# Altium schematic symbol library PrISUm-ICs.SchLib: 27 symbols
Pins are listed as number, name and electrical type; pins without a type are passive.

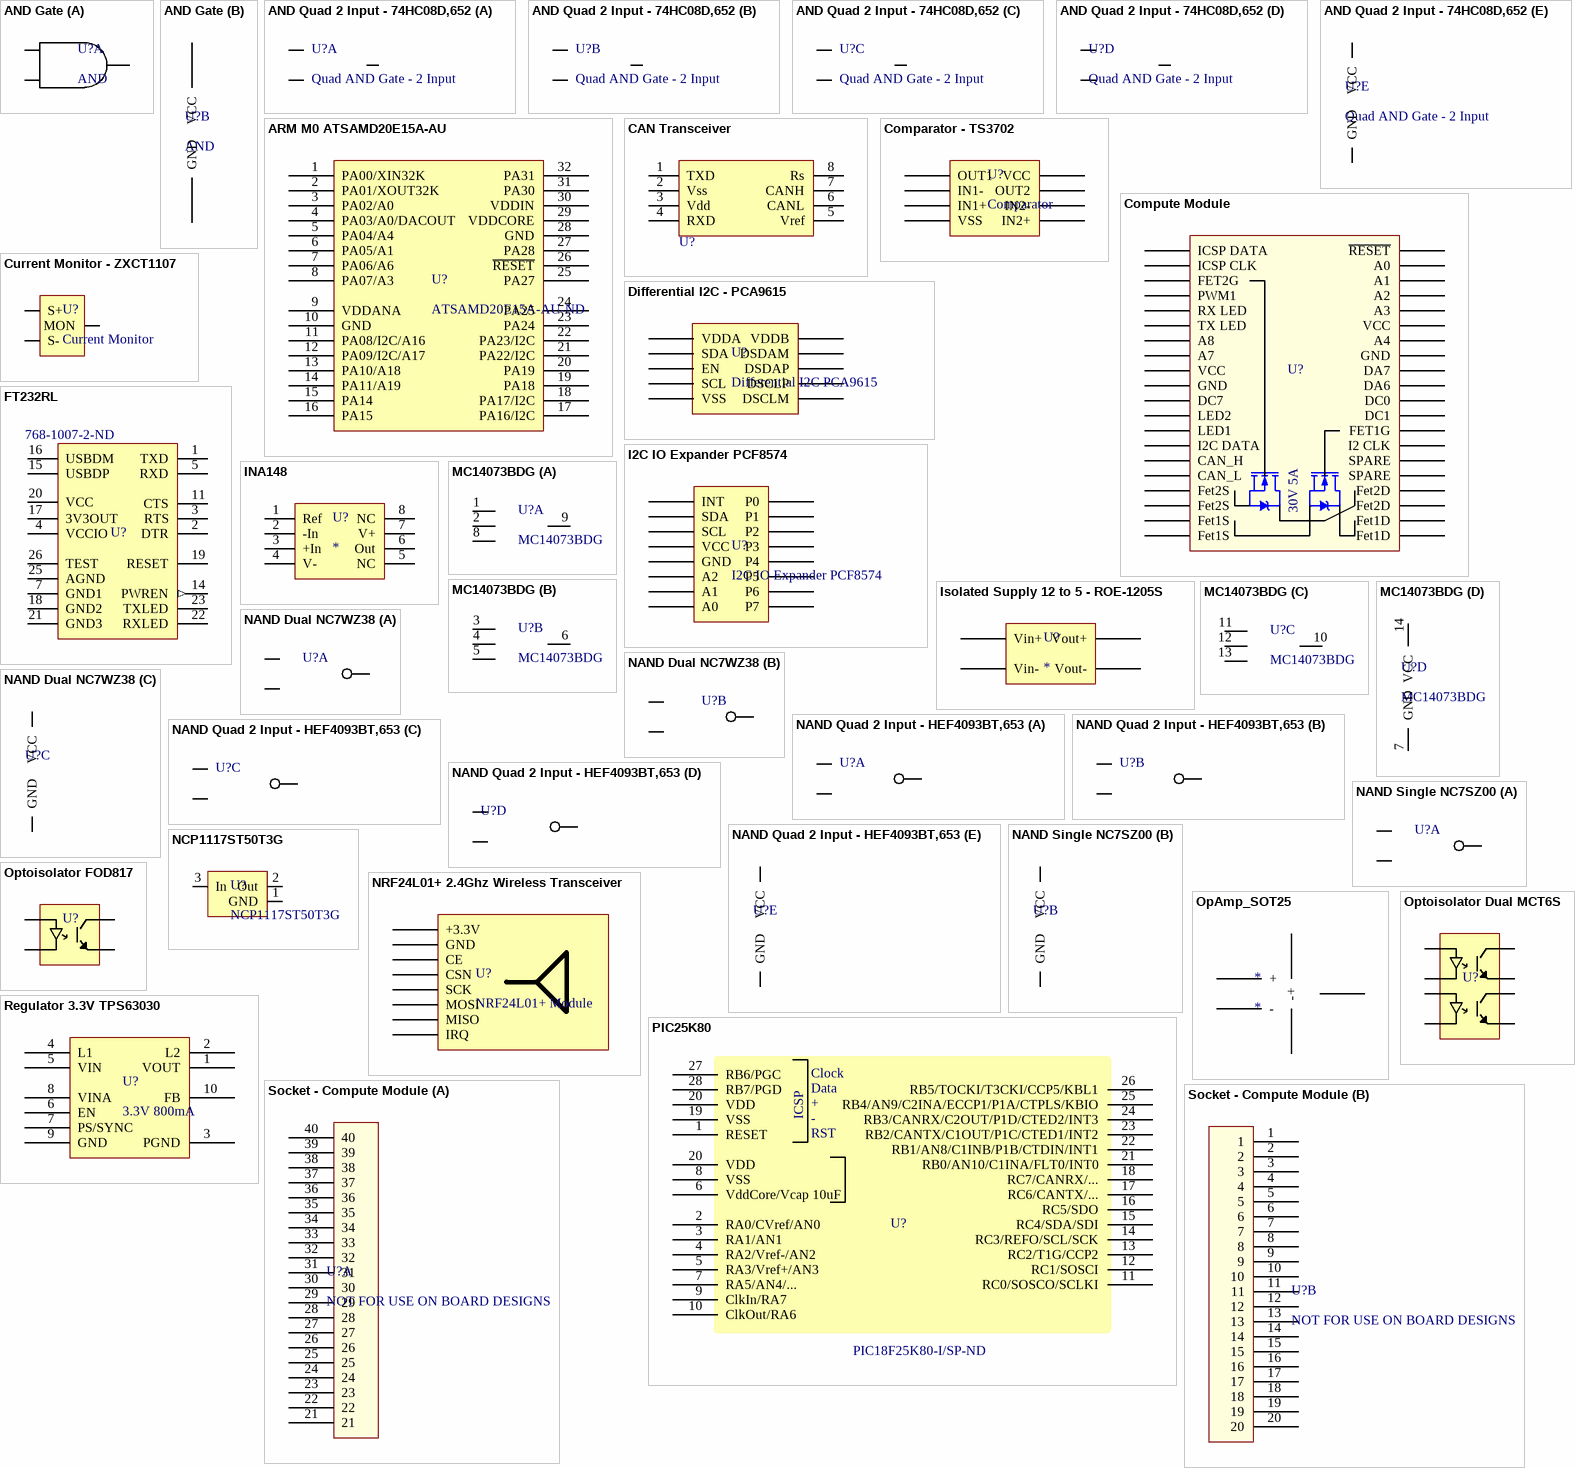
[diagram p0: symbols AND Gate to Socket - Compute Module]

## AND Gate
designator U?, comment AND
Supplier 1: Digi-Key; Supplier Part Number 1: NC7SZ08P5XCT-ND; Digikey: http://www.digikey.com/product-detail/en/fairchild-semiconductor/NC7SZ08P5X/NC7SZ08P5XCT-ND/673391; Datasheet: https://www.fairchildsemi.com/datasheets/NC/NC7SZ08.pdf
footprint SOT-23-5
part A pins: 1, 2, 4
part B pins: 3 GND, 5 VCC

## AND Quad 2 Input - 74HC08D,652
designator U?, comment Quad AND Gate - 2 Input
Quad AND Gate - 2 Input 74HC08D,652; Digikey: http://www.digikey.com/product-detail/en/nxp-semiconductors/74HC08D,653/568-1386-1-ND/763371; Datasheet: http://www.nxp.com/documents/data_sheet/74HC_HCT08.pdf; Supplier 1: Digi-Key; Supplier Part Number 1: 568-4994-5-ND
footprint SO14
part A pins: 1, 2, 3
part B pins: 4, 5, 6
part C pins: 8, 9, 10
part D pins: 11, 12, 13
part E pins: 7 GND, 14 VCC

## ARM M0 ATSAMD20E15A-AU
designator U?, comment ATSAMD20E15A-AU-ND
Supplier 1: Digi-Key; Supplier Part Number 1: ATSAMD20E15A-AU-ND; Digikey: http://www.digikey.com/product-search/en?keywords=ATSAMD20E15A-AU-ND; Datasheet: http://www.atmel.com/Images/Atmel-42129-SAM-D20_Datasheet.pdf
footprint TQFP32
pins: 1 PA00/XIN32K, 2 PA01/XOUT32K, 3 PA02/A0, 4 PA03/A0/DACOUT, 5 PA04/A4, 6 PA05/A1, 7 PA06/A6, 8 PA07/A3, 9 VDDANA, 10 GND, 11 PA08/I2C/A16, 12 PA09/I2C/A17, 13 PA10/A18, 14 PA11/A19, 15 PA14, 16 PA15, 17 PA16/I2C, 18 PA17/I2C, 19 PA18, 20 PA19, 21 PA22/I2C, 22 PA23/I2C, 23 PA24, 24 PA25, 25 PA27, 26 ~{RESET}, 27 PA28, 28 GND, 29 VDDCORE, 30 VDDIN, 31 PA30, 32 PA31

## CAN Transceiver
designator U?, comment MCP2551 or SN65HVD232DR  (value not drawn)
CAN Transceiver; Digikey-MCP2551: http://www.digikey.com/product-detail/en/microchip-technology/MCP2551-I%2FSN/MCP2551-I%2FSN-ND/509452; Digikey-SN65: http://www.digikey.com/product-detail/en/texas-instruments/SN65HVD232DR/296-26344-1-ND/2254978; Datasheet-SN65: http://www.ti.com/lit/ds/symlink/sn65hvd230.pdf; Datasheet-MCP2551: http://ww1.microchip.com/downloads/en/DeviceDoc/21667f.pdf
footprint DIP8
footprint SOIC-8 (SOIC, 8-Leads, Body 5.0x4.0mm (max), Pitch 1.27mm, IPC High Density)
pins: 1 TXD, 2 Vss, 3 Vdd, 4 RXD, 5 Vref, 6 CANL, 7 CANH, 8 Rs

## Comparator - TS3702
designator U?, comment Comparator
Supplier 1: Digi-Key; Supplier Part Number 1: 497-6611-6-ND; Datasheet: http://www2.st.com/content/ccc/resource/technical/document/datasheet/group1/2c/b4/cf/d6/e3/7e/49/5c/CD00000882/files/CD00000882.pdf/jcr:content/translations/en.CD00000882.pdf; Digikey: http://www.digikey.com/product-detail/en/stmicroelectronics/TS3702CDT/497-6611-1-ND/1865422
footprint SOIC-8 (SOIC, 8-Leads, Body 5.0x4.0mm (max), Pitch 1.27mm, IPC High Density)
pins: 1 OUT1, 2 IN1-, 3 IN1+, 4 VSS, 5 IN2+, 6 IN2-, 7 OUT2, 8 VCC

## Compute Module
designator U?  (value not drawn)
PrISUm Standard Compute Module - DIP40; Pinout Revision: 1.0; Doccumentation: TBD; Datasheet: TBD
footprint COMPUTEMODULE (Socket for compute module)
pins: 1 ICSP DATA, 2 ICSP CLK, 3 FET2G, 4 PWM1, 5 RX LED, 6 TX LED, 7 A8, 8 A7, 9 VCC, 10 GND, 11 DC7, 12 LED2, 13 LED1, 14 I2C DATA, 15 CAN_H, 16 CAN_L, 17 Fet2S, 18 Fet2S, 19 Fet1S, 20 Fet1S, 21 Fet1D, 22 Fet1D, 23 Fet2D, 24 Fet2D, 25 SPARE, 26 SPARE, 27 I2 CLK, 28 FET1G, 29 DC1, 30 DC0, 31 DA6, 32 DA7, 33 GND, 34 A4, 35 VCC, 36 A3, 37 A2, 38 A1, 39 A0, 40 ~{RESET}
text: 30V 5A

## Current Monitor - ZXCT1107
designator U?, comment Current Monitor
Supplier 1: Digi-Key; Supplier Part Number 1: ZXCT1107SA-7DITR-ND; Digikey: http://www.digikey.com/product-detail/en/diodes-incorporated/ZXCT1107SA-7/ZXCT1107SA-7DICT-ND/3677922; Datasheet: http://www.diodes.com/_files/datasheets/ZXCT1107_10.pdf
footprint SOT223-4M
pins: 1 MON, 2 S-, 3 S+

## Differential I2C - PCA9615
designator U?, comment Differential I2C PCA9615
Digikey: http://www.digikey.com/product-detail/en/nxp-semiconductors/PCA9615DPJ/568-11484-1-ND/4864508; Datasheet: http://www.nxp.com/documents/data_sheet/PCA9615.pdf; Supplier 1: Digi-Key; Supplier Part Number 1: 568-11484-1-ND
footprint TSSOP-10
pins: 1 VDDA, 2 SDA, 3 EN, 4 SCL, 5 VSS, 6 DSCLM, 7 DSCLP, 8 DSDAP, 9 DSDAM, 10 VDDB

## FT232RL
designator U?  Supplier Part Number 1: 768-1007-2-ND
FTDI USB-Serial; MFG Part Number: FT232RL; Latest Rev Note: Component Created; ComponentLink1Description: Datasheet; ComponentLink2URL: http://search.digikey.com/us/en/products/FT232RL-REEL/768-1007-1-ND/1836402; ComponentLink1URL: http://www.ftdichip.com/Support/Documents/DataSheets/ICs/DS_FT232R.pdf; ComponentLink2Description: MFG Product Page; Latest Rev Date: Oct 28, 2010; Manufacturer: FTDI; Package: SSOP-28; Published: Oct 27, 2010; Supplier 1: Digi-Key
footprint SSOP-28
pins: 1 TXD, 2 DTR, 3 RTS, 4 VCCIO, 5 RXD, 7 GND1, 11 CTS, 14 PWREN (out), 15 USBDP, 16 USBDM, 17 3V3OUT, 18 GND2, 19 RESET, 20 VCC, 21 GND3, 22 RXLED, 23 TXLED, 25 AGND, 26 TEST

## I2C IO Expander PCF8574
designator U?
8 pin I2C IO Expander; Datasheet: http://www.ti.com/lit/ds/symlink/pcf8574.pdf; Digikey: http://www.digikey.com/product-detail/en/texas-instruments/PCF8574DWR/296-13108-2-ND/484758; Supplier 1: Digi-Key; Supplier Part Number 1: 296-13108-1-ND
footprint SOIC16
pins: 1 A0, 2 A1, 3 A2, 4 P0, 5 P1, 6 P2, 7 P3, 8 GND, 9 P4, 10 P5, 11 P6, 12 P7, 13 INT, 14 SCL, 15 SDA, 16 VCC

## INA148
designator U?
200V Differential OpAmp; Digikey: http://www.digikey.com/product-detail/en/texas-instruments/INA148UA%2F2K5G4/296-37633-1-ND/4833878; Datasheet: http://www.ti.com/lit/ds/symlink/ina148.pdf
footprint SOIC-8 (SOIC, 8-Leads, Body 5.0x4.0mm (max), Pitch 1.27mm, IPC High Density)
pins: 1 Ref, 2 -In, 3 +In, 4 V-, 5 NC, 6 Out, 7 V+, 8 NC

## Isolated Supply 12 to 5 - ROE-1205S
designator U?
Isolated 1W 12V to 5V aprox 70% efficient; Digikey: http://www.digikey.com/product-detail/en/recom-power/ROE-1205S/ROE-1205S-ND/5684100; Datasheet: http://www.recom-power.com/pdf/Econoline/ROE.pdf; Supplier 1: Digi-Key; Supplier Part Number 1: ROE-1205S-ND
footprint ROE-1205S (Isolated Power Supply ROE series RECOM power)
pins: 1 Vin-, 2 Vin+, 3 Vout-, 4 Vout+

## MC14073BDG
designator U?
Triple 3-Input AND; ComponentLink1Description: Datasheet; ComponentLink1URL: http://www.onsemi.com/pub_link/Collateral/MC14001B-D.PDF; Drawn By: Aaron Mills; Drawing Date: Jan. 17, 2011
footprint SO14
part A pins: 1, 2, 8, 9
part B pins: 3, 4, 5, 6
part C pins: 10, 11, 12, 13
part D pins: 7 GND, 14 VCC

## NAND Dual NC7WZ38
designator U?, comment NAND Dual  (value not drawn)
Supplier 1: Digi-Key; Supplier Part Number 1: NC7WZ38K8XCT-ND; Datasheet: https://www.fairchildsemi.com/datasheets/NC/NC7WZ38.pdf; Digikey: http://www.digikey.com/product-detail/en/fairchild-semiconductor/NC7WZ38K8X/NC7WZ38K8XCT-ND/3504377
footprint SOIC-8 (SOIC, 8-Leads, Body 5.0x4.0mm (max), Pitch 1.27mm, IPC High Density)
part A pins: 1, 2, 7
part B pins: 3, 5, 6
part C pins: 4 GND, 8 VCC

## NAND Quad 2 Input - HEF4093BT,653
designator U?, comment Quad NAND Gate - 2 Input  (value not drawn)
Quad NAND Gate - 2 Input HEF4093BT,653; Digikey: http://www.digikey.com/product-detail/en/nxp-semiconductors/HEF4093BT,653/568-1705-1-ND/763507; Datasheet: http://www.nxp.com/documents/data_sheet/HEF4093B.pdf; Supplier 1: Digi-Key; Supplier Part Number 1: 568-1705-1-ND
footprint SO14
part A pins: 1, 2, 3
part B pins: 4, 5, 6
part C pins: 8, 9, 10
part D pins: 11, 12, 13
part E pins: 7 GND, 14 VCC

## NAND Single NC7SZ00
designator U?, comment NAND  (value not drawn)
NC7SZ00; Datasheet: https://www.fairchildsemi.com/datasheets/NC/NC7SZ00.pdf; Digikey: http://www.digikey.com/product-detail/en/fairchild-semiconductor/NC7SZ00P5X/NC7SZ00P5XDKR-ND/1653754; Supplier 1: Digi-Key; Supplier Part Number 1: NC7SZ00P5XDKR-ND
footprint SC70-5
part A pins: 1, 2, 4
part B pins: 3 GND, 5 VCC

## NCP1117ST50T3G
designator U?
IC REG LDO 5V 1A SOT-223; Digikey: http://www.digikey.com/product-detail/en/on-semiconductor/NCP1117ST50T3G/NCP1117ST50T3GOSCT-ND/1967217; Datasheet: http://www.onsemi.com/pub_link/Collateral/NCP1117-D.PDF; Supplier 1: Digi-Key; Supplier Part Number 1: NCP1117ST50T3GOSTR-ND
footprint SOT223-4M (SOT223/SC73, 4-Leads, Body 6.5x3.5mm, Pitch 2.3mm, Lead Span 7mm, IPC Low Density)
pins: 1 GND, 2 Out, 3 In

## NRF24L01+ 2.4Ghz Wireless Transceiver
designator U?, comment NRF24L01+ Module
Datasheet: http://www.nordicsemi.com/eng/content/download/2726/34069/file/nRF24L01P_Product_Specification_1_0.pdf; Order Link: *https://www.amazon.com/Makerfocus-NRF24l0-Wireless-Transceiver-Module/dp/B01IK9GJ2A/ref=sr_1_10?ie=UTF8&qid=1471190839&sr=8-10&keywords=nrf24l01+smd
footprint NRF24L01+ Module
pins: 1 +3.3V, 2 GND, 3 CE, 4 CSN, 5 SCK, 6 MOSI, 7 MISO, 8 IRQ

## OpAmp_SOT25
designator *
footprint OpAmp_SOT25
pins: 1 +, 2 -, 3 -, 4, 5 +

## Optoisolator Dual MCT6S
designator U?, comment Dual Optoisolator  (value not drawn)
Supplier 1: Digi-Key; Supplier Part Number 1: MCT6S-ND; Datasheet: https://www.fairchildsemi.com/datasheets/MC/MCT6.pdf; Digikey: http://www.digikey.com/product-detail/en/fairchild-semiconductor/MCT6S/MCT6S-ND/401751
footprint Dual Optoisolator MCT6
pins: 1, 2, 3, 4, 5, 6, 7, 8

## Optoisolator FOD817
designator U?, comment Optoisolator  (value not drawn)
Datasheet: https://www.fairchildsemi.com/datasheets/FO/FOD817D.pdf; Digikey: http://www.digikey.com/product-detail/en/fairchild-semiconductor/FOD817DS/FOD817DS-ND/1049825; Supplier 1: Digi-Key; Supplier Part Number 1: FOD817DS-ND
footprint FOD817 (Optoisolator)
pins: 1, 2, 3, 4

## PIC25K80
designator U?  Supplier Part Number 1: PIC18F25K80-I/SP-ND  (hidden comment: *)
Datasheet: http://ww1.microchip.com/downloads/en/DeviceDoc/39977f.pdf; Digikey-DIP: http://www.digikey.com/product-detail/en/PIC18F25K80-E%2FSP/PIC18F25K80-E%2FSP-ND/2615059; Digikey-QFN: http://www.digikey.com/product-detail/en/PIC18F25K80-I%2FMM/PIC18F25K80-I%2FMM-ND/2601518; Digikey-SOIC: http://www.digikey.com/product-detail/en/PIC18F25K80-I%2FSO/PIC18F25K80-I%2FSO-ND/2601519; Supplier 1: Digi-Key
footprint DIP28
footprint SOIC-28
pins: 1 RESET, 2 RA0/CVref/AN0, 3 RA1/AN1, 4 RA2/Vref-/AN2, 5 RA3/Vref+/AN3, 6 VddCore/Vcap 10uF "10uF CAP", 7 RA5/AN4/..., 8 VSS, 9 ClkIn/RA7, 10 ClkOut/RA6, 11 RC0/SOSCO/SCLKI, 12 RC1/SOSCI, 13 RC2/T1G/CCP2, 14 RC3/REFO/SCL/SCK, 15 RC4/SDA/SDI, 16 RC5/SDO, 17 RC6/CANTX/..., 18 RC7/CANRX/..., 19 VSS (power), 20 VDD, 20 VDD, 21 RB0/AN10/C1INA/FLT0/INT0, 22 RB1/AN8/C1INB/P1B/CTDIN/INT1, 23 RB2/CANTX/C1OUT/P1C/CTED1/INT2, 24 RB3/CANRX/C2OUT/P1D/CTED2/INT3, 25 RB4/AN9/C2INA/ECCP1/P1A/CTPLS/KBIO, 26 RB5/TOCKI/T3CKI/CCP5/KBL1, 27 RB6/PGC, 28 RB7/PGD
text: Clock; Data; ICSP; +; -; RST

## Regulator 3.3V TPS63030
designator U?, comment 3.3V 800mA
Supplier 1: Digi-Key; Supplier Part Number 1: 296-39461-1-ND; Datasheet: http://www.ti.com/lit/ds/symlink/tps63030.pdf; Digikey: http://www.digikey.com/product-detail/en/texas-instruments/TPS63031DSKR/296-39461-1-ND/5143409
footprint PWSON-10
pins: 1 VOUT, 2 L2, 3 PGND, 4 L1, 5 VIN, 6 EN, 7 PS/SYNC, 8 VINA, 9 GND, 10 FB

## Socket - Compute Module
designator U?, comment NOT FOR USE ON BOARD DESIGNS
DIP40 For Compute Module - FOR USE ON CM ONLY; ComputeModuleRev: A; Onboard MCU: PIC25K80
footprint ComputeModuleSocket (Socket for compute module)
part A pins: 21, 22, 23, 24, 25, 26, 27, 28, 29, 30, 31, 32, 33, 34, 35, 36, 37, 38, 39, 40
part B pins: 1, 2, 3, 4, 5, 6, 7, 8, 9, 10, 11, 12, 13, 14, 15, 16, 17, 18, 19, 20

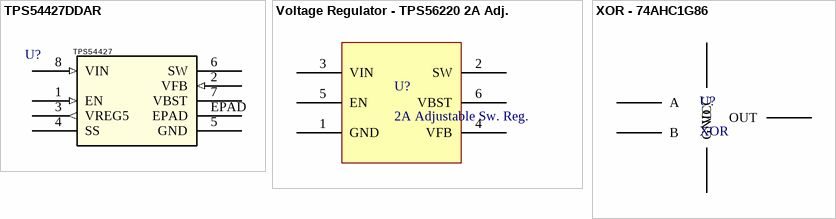
[diagram p1: symbols TPS54427DDAR to XOR - 74AHC1G86]

## TPS54427DDAR
designator U?  GENERIC_PART_NUMBER: TPS54427  (hidden comment: TPS54427DDAR)
Regulator; Vendor: Texas Instruments; PACKAGE_DESIGNATOR: DDA; PIN_COUNT: 8; FAMILY_NAME: STEP-DOWN REGULATOR; INDUSTRY_STD_PKG_TYPE: SO PowerPAD; 3D_Library_Name: TI_AllParts_2012-12-25; C: Copyright (C) 2015 Accelerated Designs. All rights reserved; Manufacturer_Part_Number: TPS54427DDAR; Datasheet URL: http://www.ti.com/lit/gpn/TPS54427; Manufacturer: Texas Instruments; Copyright: Copyright (C) 2015 Accelerated Designs. All rights reserved; RefDes: RefDes; Type: Type; Value: Value; Digikey: http://www.digikey.com/product-detail/en/texas-instruments/TPS54427DDAR/296-30033-1-ND/2795678
footprint SO8 + Thermal Pad
pins: 1 EN (in), 2 VFB (in), 3 VREG5 (out), 4 SS, 5 GND (power), 6 SW, 7 VBST, 8 VIN (in), EPAD

## Voltage Regulator - TPS56220 2A Adj.
designator U?, comment 2A Adjustable Sw. Reg.
Supplier 1: Digi-Key; Supplier Part Number 1: 296-39631-1-ND; Datasheet: http://www.ti.com/lit/ds/symlink/tps562200.pdf; Digikey: http://www.digikey.com/product-detail/en/texas-instruments/TPS562200DDCR/296-39631-1-ND/5149047
footprint SOT-23-6
pins: 1 GND, 2 SW, 3 VIN, 4 VFB, 5 EN, 6 VBST

## XOR - 74AHC1G86
designator U?, comment XOR
Digikey: http://www.digikey.com/product-detail/en/diodes-incorporated/74AHC1G86SE-7/74AHC1G86SE-7DICT-ND/2639313; Datasheet: http://www.diodes.com/_files/datasheets/74AHC1G86.pdf; Supplier 1: Digi-Key; Supplier Part Number 1: 74AHC1G86SE-7DITR-ND
footprint SOT353
pins: 1 A, 2 B, 3 GND, 4 OUT, 5 VCC